# EAGLE library part MC33926 (library MotorDriver)
The 33926 is a SMARTMOS monolithic H-Bridge Power IC designed primarily for automotive electronic throttle control, but is applicable to any low-voltage DC servo motor control application within the current and voltage limits stated in this specification. The 33926 is able to control inductive loads with currents up to 5.0 A peak. RMS current capability is subject to the degree of heatsinking provided to the device package. Internal peak-current limiting (regulation) is activated at load currents above 6.5 A 1.5 A. Output loads can be pulse width modulated (PWM’ed) at frequencies up to 20 kHz. A load current feedback feature provides a proportional (0.24% of the load current) current output suitable for monitoring by a microcontroller’s A/D input. A Status Flag output reports undervoltage, overcurrent, and overtemperature fault conditions. Two independent inputs provide polarity control of two half-bridge totem-pole outputs. Two independent disable inputs are provided to force the H-Bridge outputs to tri-state (high-impedance off state). An inverted input changes the IN1 and IN2 inputs to LOW = true logic.
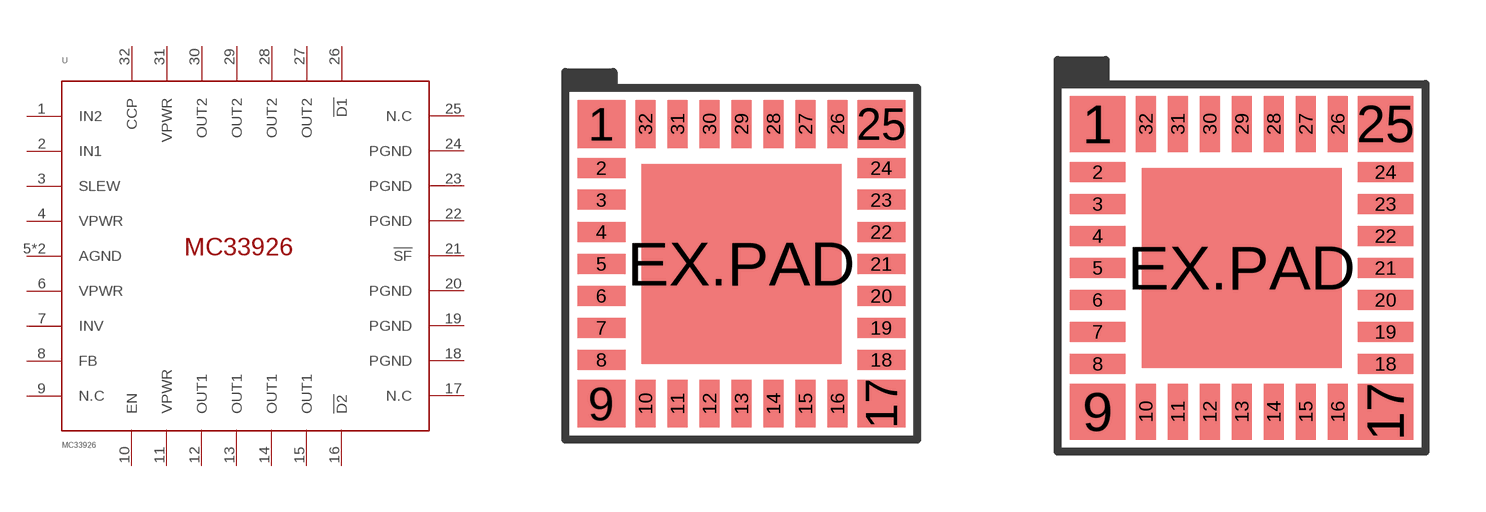
[diagram p0: symbol with the pads of PQFN32; footprints PQFN32, PQFN32_EXTEND]

Designator prefix U

## MC33926  [PQFN32]
1  IN2
2  IN1
3  SLEW
4  VPWR  pwr
5  AGND  pwr
6  VPWR  pwr
7  INV
8  FB
9  N.C  nc
10  EN
11  VPWR  pwr
12  OUT1  out
13  OUT1  out
14  OUT1  out
15  OUT1  out
16  !D2!
17  N.C  nc
18  PGND  pwr
19  PGND  pwr
20  PGND  pwr
21  !SF!
22  PGND  pwr
23  PGND  pwr
24  PGND  pwr
25  N.C  nc
26  !D1!
27  OUT2  out
28  OUT2  out
29  OUT2  out
30  OUT2  out
31  VPWR  pwr
32  CCP
EX.PAD  AGND  pwr

## MC33926_HAND  [PQFN32_EXTEND]
Pads as for PQFN32

## Footprint PQFN32 (pad centres in mm)
smd 1.2 x 1.2: 1 -3.5,3.5; 9 -3.5,-3.5; 17 3.5,-3.5; 25 3.5,3.5
smd 1.2 x 0.5: 2 -3.5,2.4; 3 -3.5,1.6; 4 -3.5,0.8; 5 -3.5,0; 6 -3.5,-0.8; 7 -3.5,-1.6; 8 -3.5,-2.4; 18 3.5,-2.4; 19 3.5,-1.6; 20 3.5,-0.8; 21 3.5,0; 22 3.5,0.8; 23 3.5,1.6; 24 3.5,2.4
smd 0.5 x 1.2: 10 -2.4,-3.5; 11 -1.6,-3.5; 12 -0.8,-3.5; 13 0,-3.5; 14 0.8,-3.5; 15 1.6,-3.5; 16 2.4,-3.5; 26 2.4,3.5; 27 1.6,3.5; 28 0.8,3.5; 29 0,3.5; 30 -0.8,3.5; 31 -1.6,3.5; 32 -2.4,3.5
smd 5 x 5: EX.PAD 0,0

## Footprint PQFN32_EXTEND (pad centres in mm)
smd 1.4 x 1.4: 1 -3.6,3.6; 9 -3.6,-3.6; 17 3.6,-3.6; 25 3.6,3.6
smd 1.4 x 0.5: 2 -3.6,2.4; 3 -3.6,1.6; 4 -3.6,0.8; 5 -3.6,0; 6 -3.6,-0.8; 7 -3.6,-1.6; 8 -3.6,-2.4; 18 3.6,-2.4; 19 3.6,-1.6; 20 3.6,-0.8; 21 3.6,0; 22 3.6,0.8; 23 3.6,1.6; 24 3.6,2.4
smd 0.5 x 1.4: 10 -2.4,-3.6; 11 -1.6,-3.6; 12 -0.8,-3.6; 13 0,-3.6; 14 0.8,-3.6; 15 1.6,-3.6; 16 2.4,-3.6; 26 2.4,3.6; 27 1.6,3.6; 28 0.8,3.6; 29 0,3.6; 30 -0.8,3.6; 31 -1.6,3.6; 32 -2.4,3.6
smd 5 x 5: EX.PAD 0,0